# Altium schematic symbol library SMBJ5P0A-TR.SchLib: 1 symbol
Pins are listed as number, name and electrical type; pins without a type are passive.

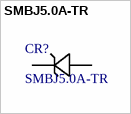
[diagram p0: symbol SMBJ5.0A-TR]

## SMBJ5.0A-TR
designator CR?
600 W, 5 V TVS in SMB; Manufacturer_Name: STMicroelectronics; Copyright: Copyright (C) 2025 Ultra Librarian. All rights reserved.; Manufacturer_Part_Number: SMBJ5.0A-TR; Refdes: Refdes
footprint SMB_STM
pins: 1, 2